# EAGLE library part ADS (library bluepill)
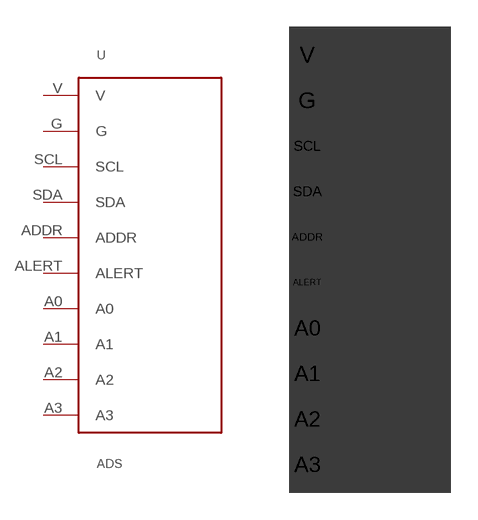
[diagram p5: symbol with the pads of ADS; footprint ADS]

Designator prefix -

## ADS  [ADS]
A0  A0
A1  A1
A2  A2
A3  A3
ADDR  ADDR
ALERT  ALERT
G  G
SCL  SCL
SDA  SDA
V  V

## Footprint ADS (pad centres in mm)
drill 0.8 square: A0 -3.5,-3.81; A1 -3.5,-6.35; A2 -3.5,-8.89; A3 -3.5,-11.43; ADDR -3.5,1.27; ALERT -3.5,-1.27; G -3.5,8.89; SCL -3.5,6.35; SDA -3.5,3.81; V -3.5,11.43
hole 3 at 1.5,10
hole 3 at 1.5,-10